# EAGLE library part CONNECTOR-I2C-EXPANDER (library SPCoast)
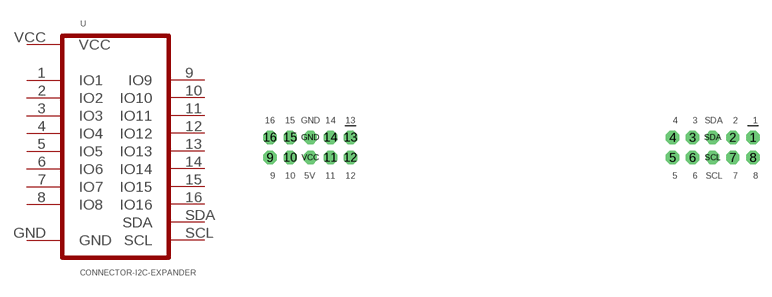
[diagram p82: symbol with the pads of I2C-EXPANDER; footprint I2C-EXPANDER]

Designator prefix -

## CONNECTOR-I2C-EXPANDER  [I2C-EXPANDER]
1  IO1
2  IO2
3  IO3
4  IO4
5  IO5
6  IO6
7  IO7
8  IO8
9  IO9
10  IO10
11  IO11
12  IO12
13  IO13
14  IO14
15  IO15
16  IO16
GND  GND
SCL  SCL
SDA  SDA
VCC  VCC

## Footprint I2C-EXPANDER (pad centres in mm)
drill 1.016 pad 1.676 octagon: 1 30.48,1.27; 2 27.94,1.27; 3 22.86,1.27; 4 20.32,1.27; 5 20.32,-1.27; 6 22.86,-1.27; 7 27.94,-1.27; 8 30.48,-1.27; 9 -30.48,-1.27; 10 -27.94,-1.27; 11 -22.86,-1.27; 12 -20.32,-1.27; 13 -20.32,1.27; 14 -22.86,1.27; 15 -27.94,1.27; 16 -30.48,1.27; GND -25.4,1.27; SCL 25.4,-1.27; SDA 25.4,1.27; VCC -25.4,-1.27